# Altium footprint library Discrete_t1.PcbLib: 293 footprints (part 10 of 19)
Each footprint in its own frame and in the unit in brackets; x right, y up, seen from the top. Pads: shape width x height; smd on the part's side, far side on the other; paste and mask are expansions set on the pad; w line width, h text height; cw(c..) or ccw(c..) is an arc to the next point about the centre after c.
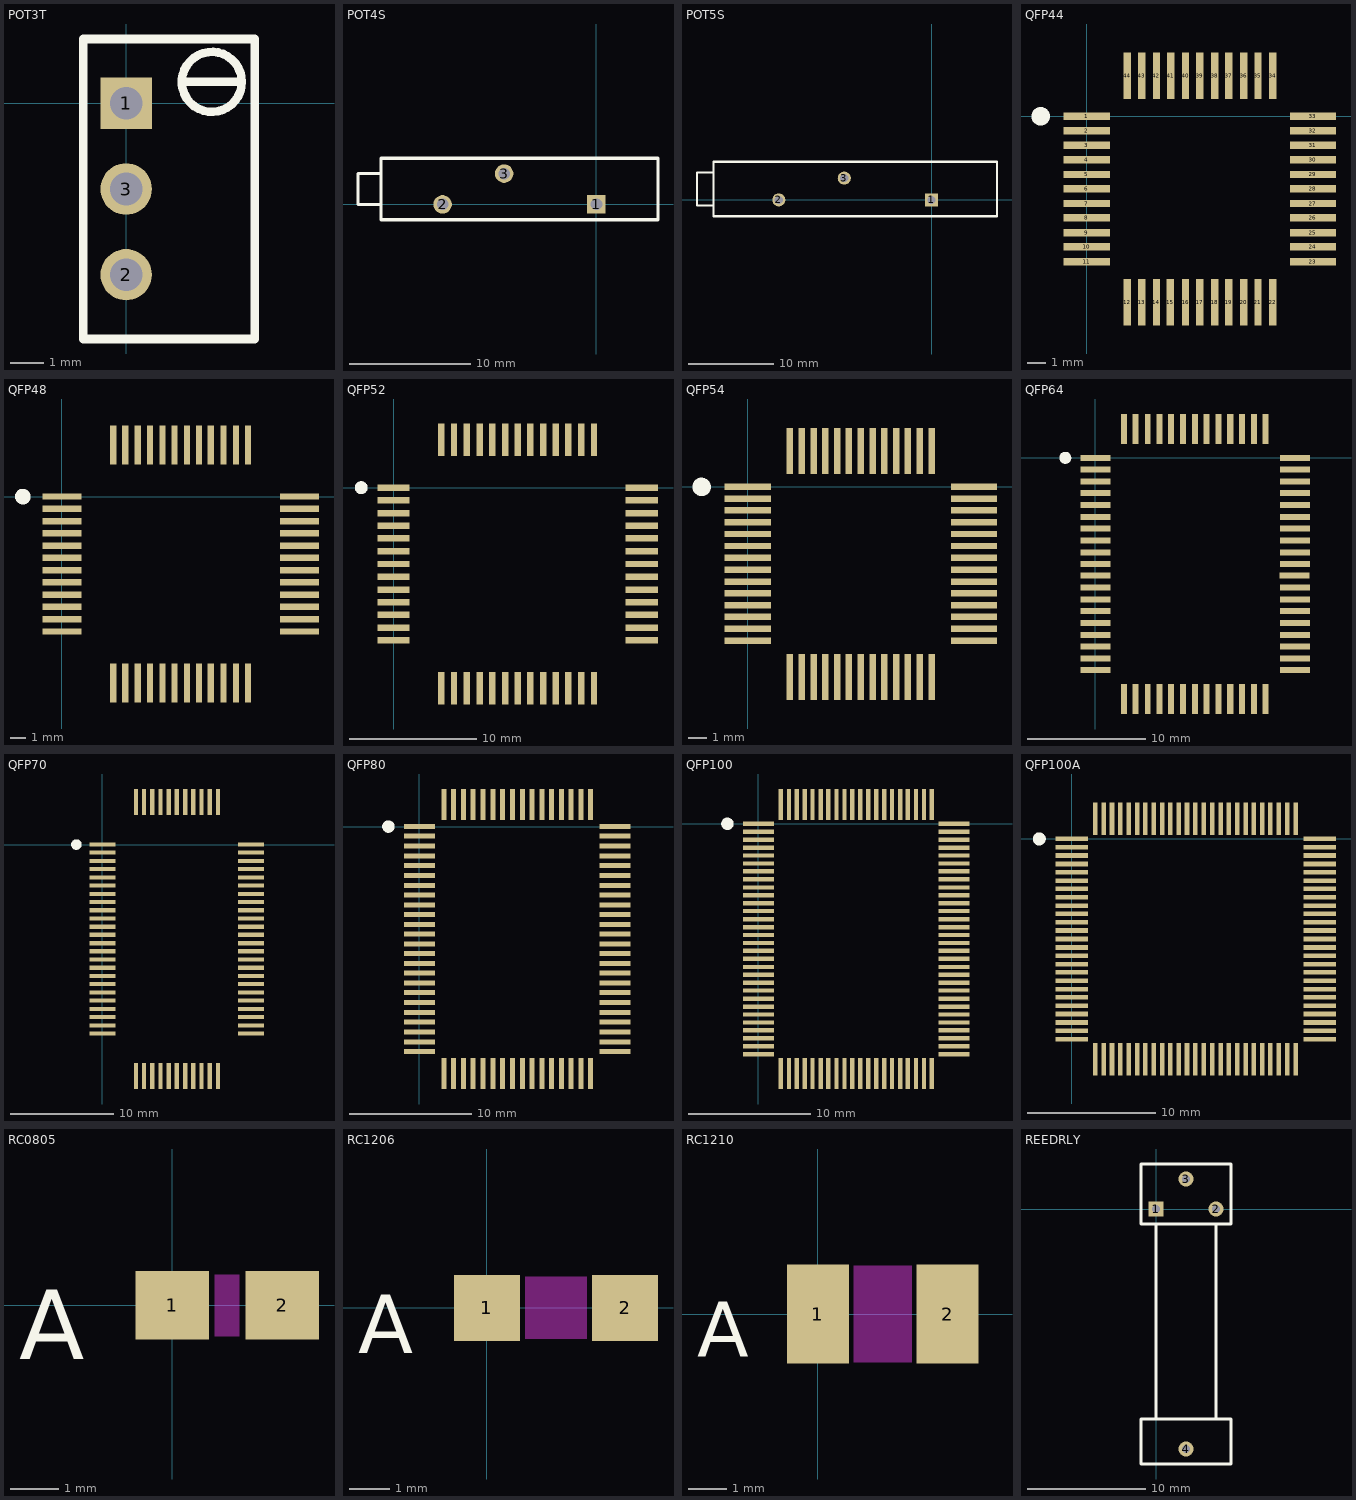
[diagram p9: the footprints below, top view; thin cyan lines are the x and y axes]

## POT3T [mil]
pads (3):
  rect 60x60 hole 38: 1(0,0)
  round 60 hole 38: 2(0,-200) 3(0,-100)
Top Overlay:
  circle w10: c100,25 r35
  lines w10: 65,25 135,25 ; -50,-275 -50,75 150,75 150,-275 -50,-275

## POT4S [mil]
pads (3):
  rect 60x60 hole 38: 1(0,0)
  round 60 hole 38: 2(-500,0) 3(-300,100)
Top Overlay:
  lines w10: -700,0 -775,0 -775,100 -700,100 ; -700,-50 200,-50 200,150 -700,150 -700,-50

## POT5S [mil]
pads (3):
  rect 60x60 hole 38: 1(0,0)
  round 60 hole 38: 2(-700,0) 3(-400,100)
Top Overlay:
  lines w10: -1000,-25 -1075,-25 -1075,125 -1000,125 ; -1000,-75 -1000,175 300,175 300,-75 -1000,-75

## QFP44 [mil]
pads (44):
  rect 100x16 smd: 1(0,0) 2(0,-31) 3(0,-63) 4(0,-94) 5(0,-126) 6(0,-157) 7(0,-189) 8(0,-220) 9(0,-252) 10(0,-283) 11(0,-315) 23(490,-315) 24(490,-283) 25(490,-252) 26(490,-220) 27(490,-189) 28(490,-157) 29(490,-126) 30(490,-94) 31(490,-63) 32(490,-31) 33(490,0)
  rect 16x100 smd: 12(88,-403) 13(119,-403) 14(151,-403) 15(181,-403) 16(214,-403) 17(245,-403) 18(277,-403) 19(308,-403) 20(340,-403) 21(371,-403) 22(403,-403) 34(403,88) 35(371,88) 36(340,88) 37(308,88) 38(277,88) 39(245,88) 40(214,88) 41(182,88) 42(151,88) 43(119,88) 44(88,88)
Top Overlay:
  circle w20: c-100,0 r10

## QFP48 [mil]
pads (48):
  rect 100x16 smd: 1(0,0) 2(0,-31) 3(0,-63) 4(0,-94) 5(0,-126) 6(0,-157) 7(0,-189) 8(0,-220) 9(0,-252) 10(0,-283) 11(0,-315) 12(0,-346) 25(610,-346) 26(610,-315) 27(610,-283) 28(610,-252) 29(610,-220) 30(610,-189) 31(610,-157) 32(610,-126) 33(610,-94) 34(610,-63) 35(610,-31) 36(610,0)
  rect 16x100 smd: 13(132,-478) 14(163,-478) 15(195,-478) 16(226,-478) 17(258,-478) 18(289,-478) 19(321,-478) 20(352,-478) 21(382,-478) 22(415,-478) 23(447,-478) 24(478,-478) 37(478,132) 38(447,132) 39(415,132) 40(382,132) 41(352,132) 42(321,132) 43(289,132) 44(258,132) 45(226,132) 46(195,132) 47(163,132) 48(132,132)
Top Overlay:
  circle w20: c-100,0 r10

## QFP52 [mil]
pads (52):
  rect 100x20 smd: 1(0,0) 2(0,-39) 3(0,-79) 4(0,-118) 5(0,-157) 6(0,-197) 7(0,-236) 8(0,-275) 9(0,-315) 10(0,-354) 11(0,-393) 12(0,-433) 13(0,-472) 27(768,-472) 28(768,-433) 29(768,-393) 30(768,-354) 31(768,-315) 32(768,-275) 33(768,-236) 34(768,-197) 35(768,-157) 36(768,-118) 37(768,-79) 38(768,-39) 39(768,0)
  rect 20x100 smd: 14(148,-620) 15(187,-620) 16(227,-620) 17(266,-620) 18(305,-620) 19(345,-620) 20(384,-620) 21(423,-620) 22(463,-620) 23(502,-620) 24(541,-620) 25(581,-620) 26(620,-620) 40(620,148) 41(581,148) 42(541,148) 43(502,148) 44(463,148) 45(423,148) 46(384,148) 47(345,148) 48(305,148) 49(266,148) 50(227,148) 51(187,148) 52(148,148)
Top Overlay:
  circle w20: c-100,0 r10

## QFP54 [mil]
pads (54):
  rect 100x14 smd: 1(0,0) 2(0,-26) 3(0,-51) 4(0,-77) 5(0,-102) 6(0,-128) 7(0,-153) 8(0,-179) 9(0,-205) 10(0,-230) 11(0,-256) 12(0,-281) 13(0,-307) 14(0,-333) 28(490,-333) 29(490,-307) 30(490,-281) 31(490,-256) 32(490,-230) 33(490,-205) 34(490,-179) 35(490,-153) 36(490,-128) 37(490,-102) 38(490,-77) 39(490,-51) 40(490,-26) 41(490,0)
  rect 14x100 smd: 15(91,-412) 16(117,-412) 17(143,-412) 18(168,-412) 19(194,-412) 20(219,-412) 21(245,-412) 22(271,-412) 23(296,-412) 24(322,-412) 25(347,-412) 26(373,-412) 27(399,-412) 42(399,78) 43(373,78) 44(347,78) 45(322,78) 46(296,78) 47(271,78) 48(245,78) 49(219,78) 50(194,78) 51(168,78) 52(143,78) 53(117,78) 54(91,78)
Top Overlay:
  circle w20: c-100,0 r10

## QFP64 [mil]
pads (64):
  rect 100x20 smd: 1(0,0) 2(0,-39) 3(0,-79) 4(0,-118) 5(0,-157) 6(0,-197) 7(0,-236) 8(0,-275) 9(0,-315) 10(0,-354) 11(0,-393) 12(0,-433) 13(0,-472) 14(0,-511) 15(0,-551) 16(0,-590) 17(0,-629) 18(0,-669) 19(0,-708) 33(665,-708) 34(665,-669) 35(665,-629) 36(665,-590) 37(665,-551) 38(665,-511) 39(665,-472) 40(665,-433) 41(664,-393) 42(665,-354) 43(665,-315) 44(665,-275) 45(665,-236) 46(665,-197) 47(665,-157) 48(665,-118) 49(665,-79) 50(665,-39) 51(665,0)
  rect 20x100 smd: 20(96,-804) 21(135,-804) 22(175,-804) 23(214,-804) 24(253,-804) 25(293,-804) 26(332,-804) 27(371,-804) 28(411,-804) 29(450,-804) 30(489,-804) 31(529,-804) 32(568,-804) 52(568,96) 53(529,96) 54(489,96) 55(450,96) 56(411,96) 57(371,96) 58(332,96) 59(293,96) 60(253,96) 61(214,96) 62(175,96) 63(135,96) 64(96,96)
Top Overlay:
  circle w20: c-100,0 r10

## QFP70 [mil]
pads (70):
  rect 100x16 smd: 1(0,0) 2(0,-31) 3(0,-63) 4(0,-94) 5(0,-126) 6(0,-157) 7(0,-189) 8(0,-220) 9(0,-252) 10(0,-283) 11(0,-315) 12(0,-346) 13(0,-378) 14(0,-409) 15(0,-441) 16(0,-472) 17(0,-504) 18(0,-535) 19(0,-567) 20(0,-598) 21(0,-630) 22(0,-661) 23(0,-693) 24(0,-724) 36(570,-724) 37(570,-693) 38(570,-661) 39(570,-630) 40(570,-598) 41(570,-567) 42(570,-535) 43(570,-504) 44(570,-472) 45(570,-441) 46(570,-409) 47(570,-378) 48(570,-346) 49(570,-315) 50(570,-283) 51(570,-252) 52(570,-220) 53(570,-189) 54(570,-157) 55(570,-126) 56(570,-94) 57(570,-63) 58(570,-31) 59(570,0)
  rect 16x100 smd: 25(128,-887) 26(159,-887) 27(191,-887) 28(222,-887) 29(254,-887) 30(285,-887) 31(317,-887) 32(348,-887) 33(380,-887) 34(411,-887) 35(443,-887) 60(443,163) 61(411,163) 62(380,163) 63(348,163) 64(317,163) 65(285,163) 66(254,163) 67(222,163) 68(191,163) 69(159,163) 70(128,163)
Top Overlay:
  circle w20: c-100,0 r10

## QFP80 [mil]
pads (80):
  rect 16x100 smd: 1(425,71) 26(79,-795) 27(110,-795) 28(142,-795) 29(173,-795) 30(205,-795) 31(236,-795) 32(268,-795) 33(299,-795) 34(331,-795) 35(362,-795) 36(394,-795) 37(425,-795) 38(457,-795) 39(488,-795) 40(520,-795) 41(551,-795) 66(551,71) 67(520,71) 68(488,71) 69(457,71) 70(394,71) 71(362,71) 72(331,71) 73(299,71) 74(268,71) 75(236,71) 76(205,71) 77(173,71) 78(142,71) 79(110,71) 80(79,71)
  rect 100x16 smd: 2(0,0) 3(0,-31) 4(0,-63) 5(0,-94) 6(0,-126) 7(0,-157) 8(0,-189) 9(0,-220) 10(0,-252) 11(0,-283) 12(0,-315) 13(0,-346) 14(0,-378) 15(0,-409) 16(0,-441) 17(0,-472) 18(0,-504) 19(0,-535) 20(0,-567) 21(0,-598) 22(0,-630) 23(0,-661) 24(0,-693) 25(0,-724) 42(630,-724) 43(630,-693) 44(630,-661) 45(630,-630) 46(630,-598) 47(630,-567) 48(630,-535) 49(630,-504) 50(630,-472) 51(630,-441) 52(630,-409) 53(630,-378) 54(630,-346) 55(630,-315) 56(630,-283) 57(630,-252) 58(630,-220) 59(630,-189) 60(630,-157) 61(630,-126) 62(630,-94) 63(630,-63) 64(630,-31) 65(630,0)
Top Overlay:
  circle w20: c-100,0 r10

## QFP100 [mil]
pads (100):
  rect 100x14 smd: 1(0,0) 2(0,-26) 3(0,-51) 4(0,-77) 5(0,-102) 6(0,-128) 7(0,-153) 8(0,-179) 9(0,-205) 10(0,-230) 11(0,-256) 12(0,-281) 13(0,-307) 14(0,-333) 15(0,-358) 16(0,-384) 17(0,-409) 18(0,-435) 19(0,-461) 20(0,-486) 21(0,-512) 22(0,-537) 23(0,-563) 24(0,-589) 25(0,-614) 26(0,-640) 27(0,-665) 28(0,-691) 29(0,-716) 30(0,-742) 51(630,-742) 52(630,-716) 53(630,-691) 54(630,-665) 55(630,-640) 56(630,-614) 57(630,-589) 58(630,-563) 59(630,-537) 60(630,-512) 61(630,-486) 62(630,-461) 63(630,-435) 64(630,-409) 65(630,-384) 66(630,-358) 67(630,-333) 68(630,-307) 69(630,-281) 70(630,-256) 71(630,-230) 72(630,-205) 73(630,-179) 74(630,-153) 75(630,-128) 76(630,-102) 77(630,-77) 78(630,-51) 79(630,-26) 80(630,0)
  rect 14x100 smd: 31(72,-804) 32(98,-804) 33(123,-804) 34(149,-804) 35(174,-804) 36(200,-804) 37(225,-804) 38(251,-804) 39(277,-804) 40(302,-804) 41(328,-804) 42(353,-804) 43(379,-804) 44(405,-804) 45(430,-804) 46(456,-804) 47(481,-804) 48(507,-804) 49(533,-804) 50(558,-804) 81(558,62) 82(533,62) 83(507,62) 84(481,62) 85(456,62) 86(430,62) 87(405,62) 88(379,62) 89(353,62) 90(328,62) 91(302,62) 92(277,62) 93(251,62) 94(225,62) 95(200,62) 96(174,62) 97(149,62) 98(123,62) 99(98,62) 100(72,62)
Top Overlay:
  circle w20: c-100,0 r10

## QFP100A [mil]
pads (100):
  rect 100x14 smd: 1(0,0) 2(0,-26) 3(0,-51) 4(0,-77) 5(0,-102) 6(0,-128) 7(0,-153) 8(0,-179) 9(0,-205) 10(0,-230) 11(0,-256) 12(0,-281) 13(0,-307) 14(0,-333) 15(0,-358) 16(0,-384) 17(0,-409) 18(0,-435) 19(0,-461) 20(0,-486) 21(0,-512) 22(0,-537) 23(0,-563) 24(0,-589) 25(0,-614) 51(760,-614) 52(760,-589) 53(760,-563) 54(760,-537) 55(760,-512) 56(760,-486) 57(760,-461) 58(760,-435) 59(760,-409) 60(760,-384) 61(760,-358) 62(760,-333) 63(760,-307) 64(760,-281) 65(760,-256) 66(760,-230) 67(760,-205) 68(760,-179) 69(760,-153) 70(760,-128) 71(760,-102) 72(760,-77) 73(760,-51) 74(760,-26) 75(760,0)
  rect 14x100 smd: 26(72,-676) 27(98,-676) 28(123,-676) 29(149,-676) 30(174,-676) 31(200,-676) 32(225,-676) 33(251,-676) 34(277,-676) 35(302,-676) 36(328,-676) 37(353,-676) 38(379,-676) 39(405,-676) 40(430,-676) 41(456,-676) 42(481,-676) 43(507,-676) 44(533,-676) 45(558,-676) 46(584,-676) 47(609,-676) 48(635,-676) 49(660,-676) 50(686,-676) 76(686,62) 77(660,62) 78(635,62) 79(609,62) 80(584,62) 81(558,62) 82(533,62) 83(507,62) 84(481,62) 85(456,62) 86(430,62) 87(405,62) 88(379,62) 89(353,62) 90(328,62) 91(302,62) 92(277,62) 93(251,62) 94(225,62) 95(200,62) 96(174,62) 97(149,62) 98(123,62) 99(98,62) 100(72,62)
Top Overlay:
  circle w20: c-100,0 r10

## RC0805 [mil]
pads (2):
  rect 60x56 smd: 1(0,0) 2(90,0)
Top Overlay:
  text "A" at -125,-44 h56.88
Multi-Layer keep-out:
  region: 55,-25 55,25 35,25 35,-25

## RC1206 [mil]
pads (2):
  rect 64x64 smd: 1(0,0) 2(134,0)
Top Overlay:
  text "A" at -125,-44 h56.88
Multi-Layer keep-out:
  region: 97,-30 97,30 37,30 37,-30

## RC1210 [mil]
pads (2):
  rect 64x102 smd: 1(0,0) 2(134,0)
Top Overlay:
  text "A" at -125,-44 h56.88
Multi-Layer keep-out:
  region: 97,-50 97,50 37,50 37,-50

## REEDRLY [mil]
pads (4):
  rect 50x50 hole 28: 1(0,0)
  round 50 hole 28: 2(200,0) 3(100,100) 4(100,-800)
Top Overlay:
  lines w10: 0,-700 0,-50 ; 200,-700 200,-50 ; -50,-850 -50,-700 250,-700 250,-850 -50,-850 ; -50,-50 -50,150 250,150 250,-50 -50,-50